# Altium schematic symbol library U_MKL05Z32VFK4.SchLib: 1 symbol
Pins are listed as number, name and electrical type; pins without a type are passive.

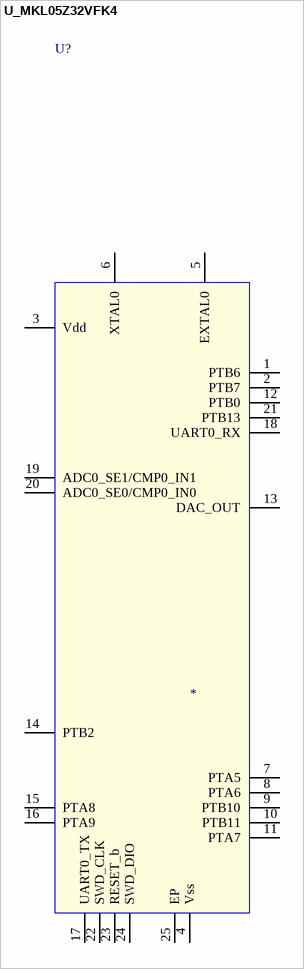
[diagram p0: symbol U_MKL05Z32VFK4]

## U_MKL05Z32VFK4
designator U?
pins: 1 PTB6, 2 PTB7, 3 Vdd, 4 Vss, 5 EXTAL0, 6 XTAL0, 7 PTA5, 8 PTA6, 9 PTB10, 10 PTB11, 11 PTA7, 12 PTB0, 13 DAC_OUT, 14 PTB2, 15 PTA8, 16 PTA9, 17 UART0_TX, 18 UART0_RX, 19 ADC0_SE1/CMP0_IN1, 20 ADC0_SE0/CMP0_IN0, 21 PTB13, 22 SWD_CLK, 23 RESET_b, 24 SWD_DIO, 25 EP "Exposed Pad"
2 alternate drawings of the same symbol